# Altium footprint library 220 TO 5 & 3.3.PcbLib: 1 footprints
Each footprint in its own frame and in the unit in brackets; x right, y up, seen from the top. Pads: shape width x height; smd on the part's side, far side on the other; paste and mask are expansions set on the pad; w line width, h text height; cw(c..) or ccw(c..) is an arc to the next point about the centre after c.
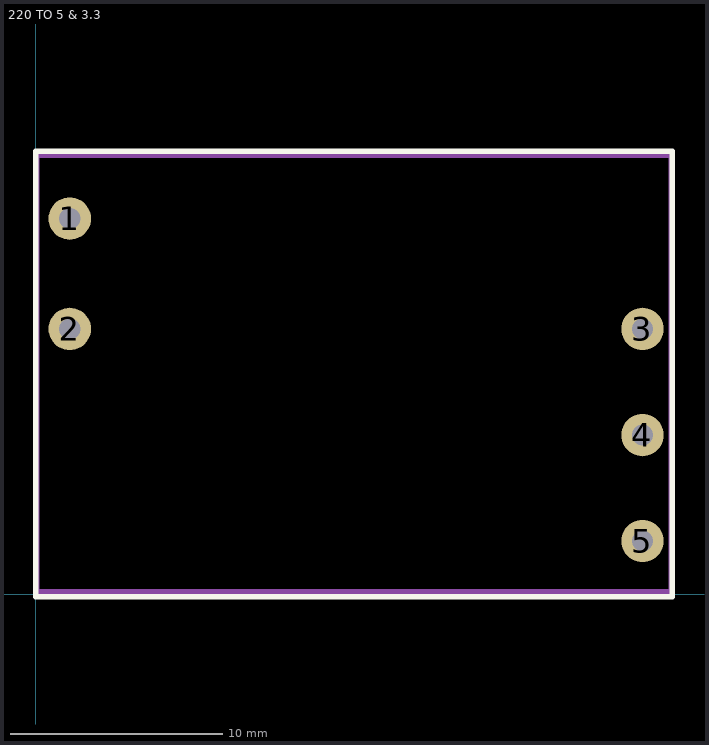
[diagram p0: the footprint, top view; thin cyan lines are the x and y axes]

## 220 TO 5 & 3.3 [mm]
pads (5):
  round 2 hole 1: 1(1.6,17.7) 2(1.6,12.5) 3(28.6,12.5) 4(28.6,7.493) 5(28.6,2.5)
Top Overlay:
  lines w0.254: 0,-0.127 30,-0.127 30,20.873 0,20.873 0,-0.127
Mechanical 1:
  lines w0.254: 0.055,0.115 29.945,0.115 29.945,20.685 0.055,20.685 0.055,0.115
3D body "AC-DC 5V 700mA.stp": height 17.6, standoff -5.93, extent 0,0 30,20.801